# Altium footprint library JLCPCB_Transistors_Packages_SMD.PcbLib: 1 footprints
Each footprint in its own frame and in the unit in brackets; x right, y up, seen from the top. Pads: shape width x height; smd on the part's side, far side on the other; paste and mask are expansions set on the pad; w line width, h text height; cw(c..) or ccw(c..) is an arc to the next point about the centre after c.
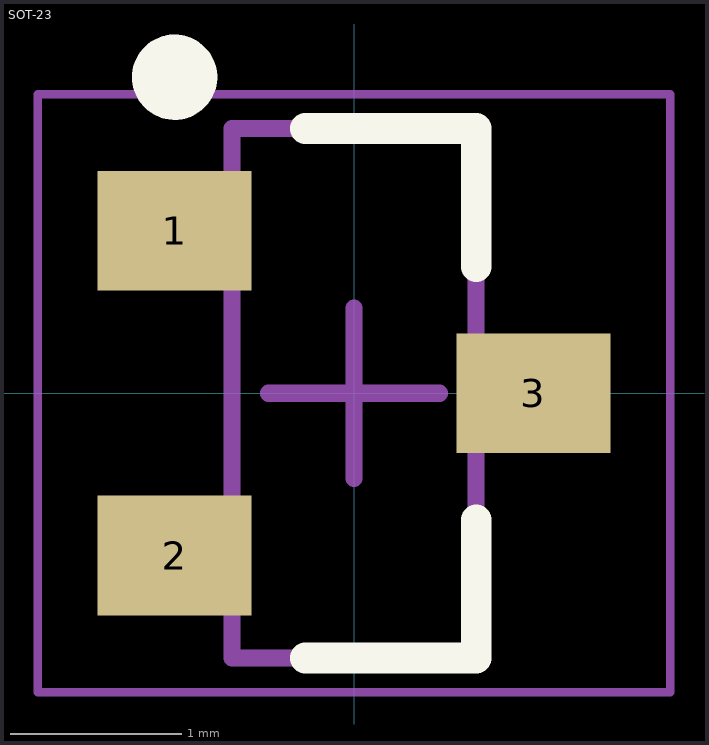
[diagram p0: the footprint, top view; thin cyan lines are the x and y axes]

## SOT-23 [mm] "SOT23, 3-Leads, Body 2,95x2,48mm, Pitch 0,95mm, IPC Medium Density"
height 1.15
pads (3):
  rect 0.9x0.7 smd mask+0.055: 1(-1.05,0.95) 2(-1.05,-0.95) 3(1.05,0)
Top Overlay:
  circle w0.25: c-1.05,1.85 r0.125
  lines w0.18: -0.285,-1.55 0.715,-1.55 0.715,-0.74 ; -0.285,1.55 0.715,1.55 0.715,0.74
Mechanical 13:
  lines w0.1: -0.715,-1.55 -0.715,1.55 0.715,1.55 0.715,-1.55 -0.715,-1.55
Mechanical 15:
  lines w0.05: -1.85,-1.75 -1.85,1.75 1.85,1.75 1.85,-1.75 -1.85,-1.75
  lines w0.1: -0.5,0 0.5,0 ; 0,-0.5 0,0.5
3D body "SOT-23.step": height 1.15, standoff 0, extent -1.3,-1.55 1.3,1.55